# EAGLE library part 653109131822 (library Wire_to_Board_Connectors_rev15d)
WR-WTB 1.25mm SMT Male Horizontal Shrouded Header, 9 Pins=>Code : Con_WTB_1.25_PCB_SMT_653109131822 <http://katalog.we-online.de/media/thumbs2/eican/thb_Con_WTB_1.25_PCB_SMT_6531xx131822_pf2.jpg> Details see: http://katalog.we-online.de/en/em/653_1xx_131_822 Created 2014-06-06, Karrer Zheng 2014 (C) Würth Elektronik
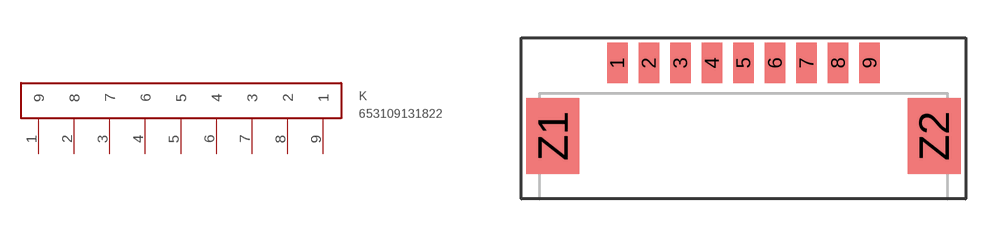
[diagram p66: symbol with the pads of 653109131822; footprint 653109131822]

Designator prefix K

## 653109131822  [653109131822]
1  9  pas
2  8  pas
3  7  pas
4  6  pas
5  5  pas
6  4  pas
7  3  pas
8  2  pas
9  1  pas

## Footprint 653109131822 (pad centres in mm)
WR-WTB 1.25mm SMT Male Horizontal Shrouded Header, 9 Pins
smd 0.81 x 1.6: 1 -0.625,0; 2 0.625,0; 3 1.875,0; 4 3.125,0; 5 4.375,0; 6 5.625,0; 7 6.875,0; 8 8.125,0; 9 9.375,0
smd 2.1 x 3: Z1 -3.175,-2.9; Z2 11.925,-2.9